# Altium schematic symbol library 钽电容.SchLib: 1 symbol
Pins are listed as number, name and electrical type; pins without a type are passive.

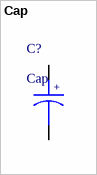
[diagram p0: symbol Cap]

## Cap
designator C?
footprint 7343C-TYPE_D
pins: 1, 2
text: +